# Altium schematic symbol library SCH - CONNECTORS - SAMTEC - SSQ-103-01-G-D.SCHLIB: 1 symbol
Pins are listed as number, name and electrical type; pins without a type are passive.

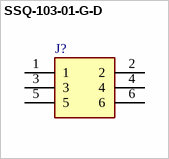
[diagram p0: symbol SSQ-103-01-G-D]

## SSQ-103-01-G-D
designator J?
Manufacturer_Name: SAMTEC; Manufacturer_Part_Number: SSQ-103-01-G-D; Datasheet Link: http://suddendocs.samtec.com/catalog_english/ssq_th.pdf; Height: 8.51mm; Mouser Part Number: 200-SSQ10301GD; Mouser Price/Stock: https://www.mouser.com/Search/Refine.aspx?Keyword=200-SSQ10301GD; RS Part Number: 7655474P; RS Price/Stock: http://uk.rs-online.com/web/p/products/7655474P
pins: 1, 2, 3, 4, 5, 6